# EAGLE library part KK-156-12 (library con-molex)
KK 156 HEADER Source: http://www.molex.com/pdm_docs/sd/026604100_sd.pdf
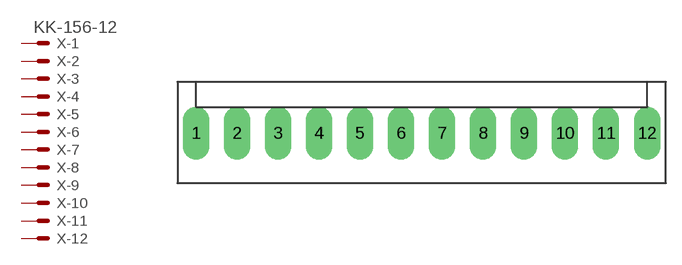
[diagram p128: symbol with the pads of KK-156-12; footprint KK-156-12]

Designator prefix X; gates -1=MV -2=M -3=M -4=M -5=M -6=M -7=M -8=M -9=M -10=M -11=M -12=M

## KK-156-12 (MF: MOLEX; OC_FARNELL: unknown; OC_NEWARK: unknown)  [KK-156-12]
1  -1:S  pas
2  -2:S  pas
3  -3:S  pas
4  -4:S  pas
5  -5:S  pas
6  -6:S  pas
7  -7:S  pas
8  -8:S  pas
9  -9:S  pas
10  -10:S  pas
11  -11:S  pas
12  -12:S  pas

## Footprint KK-156-12 (pad centres in mm)
KK® 396 Header, Vertical, Friction Lock, 12 Circuits, Tin (Sn) Plating Datasheet <http://www.molex.com/pdm_docs/sd/026604120_sd.pdf>
drill 1.7 pad 2.184 long: 1 -21.78,0; 2 -17.82,0; 3 -13.86,0; 4 -9.9,0; 5 -5.94,0; 6 -1.98,0; 7 1.98,0; 8 5.94,0; 9 9.9,0; 10 13.86,0; 11 17.82,0; 12 21.78,0